# Altium footprint library AMPHENOL_68000-402HLF.PcbLib: 1 footprints
Each footprint in its own frame and in the unit in brackets; x right, y up, seen from the top. Pads: shape width x height; smd on the part's side, far side on the other; paste and mask are expansions set on the pad; w line width, h text height; cw(c..) or ccw(c..) is an arc to the next point about the centre after c.
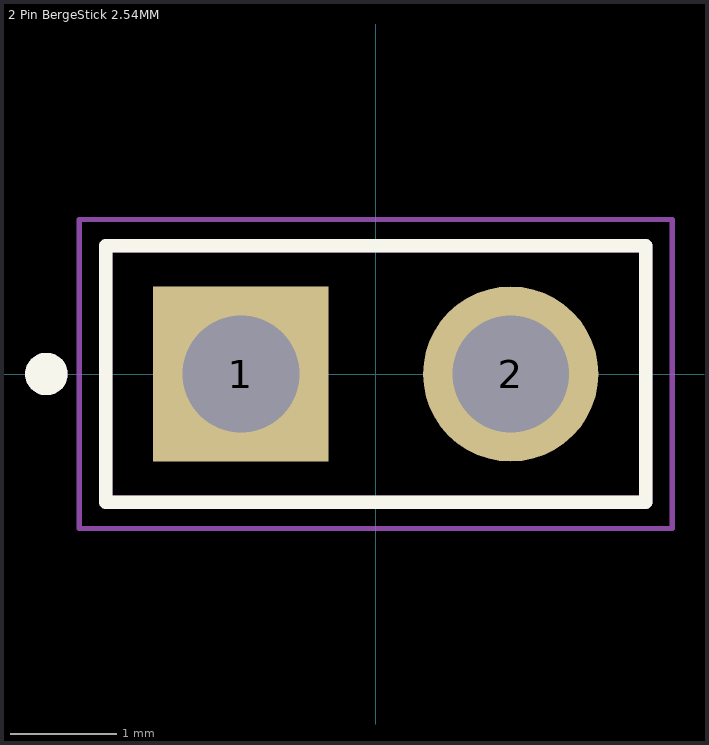
[diagram p0: the footprint, top view; thin cyan lines are the x and y axes]

## 2 Pin BergeStick 2.54MM [mm] "2 Pin 2Pos THT BergeStick 2.54MM Amphenol 68000-402HLF 3A AMPHENOL_68000-402HLF"
height 10.8
pads (2):
  rect 1.65x1.65 / inner round 1.65 / far side rect 1.65x1.65 hole 1.1: 1(-1.27,0)
  round 1.65 hole 1.1: 2(1.27,0)
Top Overlay:
  circle w0.2: c-3.1,0 r0.1
  lines w0.127: -2.54,-1.205 2.54,-1.205 2.54,1.205 -2.54,1.205 -2.54,-1.205
Mechanical 13:
  circle w0.2: c-3.1,0 r0.1
  lines w0.127: -2.54,-1.205 2.54,-1.205 2.54,1.205 -2.54,1.205 -2.54,-1.205
Mechanical 15:
  lines w0.05: -2.79,-1.455 2.79,-1.455 2.79,1.455 -2.79,1.455 -2.79,-1.455
3D body "step_temp.STEP": height 8.39, standoff -2.41, extent -2.54,-1.205 2.54,1.205